# Altium schematic symbol library A10137.Schlib: 1 symbol
Pins are listed as number, name and electrical type; pins without a type are passive.

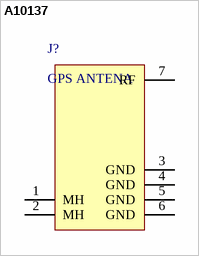
[diagram p0: symbol A10137]

## A10137
designator J?, comment GPS ANTENA
pins: 1 MH, 2 MH, 3 GND, 4 GND, 5 GND, 6 GND, 7 RF